# Altium schematic symbol library 2479774-2.SchLib: 1 symbol
Pins are listed as number, name and electrical type; pins without a type are passive.

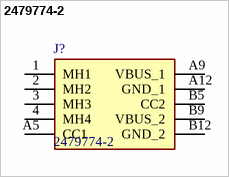
[diagram p0: symbol 2479774-2]

## 2479774-2
designator J?
USB Type-C Charge-only, 6 Pin, Top, 3u GF; Manufacturer_Name: TE Connectivity; Geometry.Height: 3.31mm; Mouser Part Number: 571-2479774-2; Mouser Price/Stock: https://www.mouser.co.uk/ProductDetail/TE-Connectivity/2479774-2?qs=dbcCsuKDzFUIulIRPaOxAw%3D%3D; Manufacturer_Part_Number: 2479774-2; Datasheet Link: http://www.te.com/en/product-2479774-2.html
footprint 24797742
pins: 1 MH1, 2 MH2, 3 MH3, 4 MH4, A5 CC1, A9 VBUS_1, A12 GND_1, B5 CC2, B9 VBUS_2, B12 GND_2